# EAGLE library part TCM2-33X+ (library SamacSys_Parts)
Audio Transformers / Signal Transformers TC XFMR / SURF MT / HAT RoHS Source: Datasheet <https://www.minicircuits.com/pdfs/TCM2-33X .pdf>
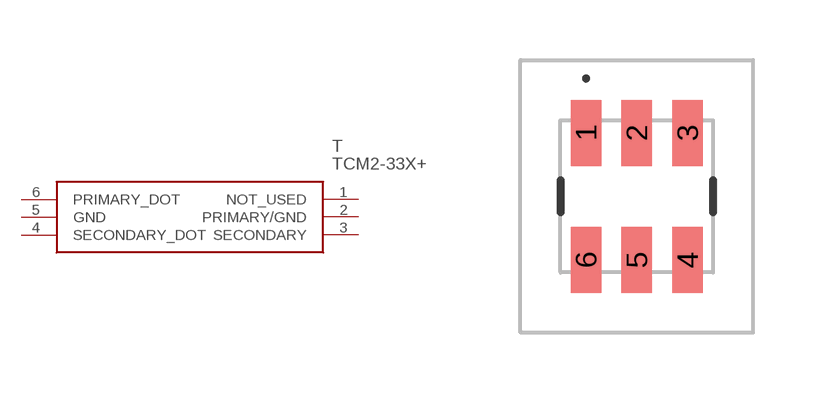
[diagram p3: symbol with the pads of TCM233X; footprint TCM233X]

Designator prefix T

## TCM2-33X+ (DESCRIPTION: Audio Transformers / Signal Transformers TC XFMR / SURF MT / HAT RoHS; HEIGHT: 4.06mm; MANUFACTURER_NAME: Mini-Circuits; MANUFACTURER_PART_NUMBER: TCM2-33X+; MOUSER_PART_NUMBER: 139-TCM2-33X; MOUSER_PRICE-STOCK: https://www.mouser.co.uk/ProductDetail/Mini-Circuits/TCM2-33X%2b?qs=xZ%2FP%252Ba9zWqaG1YGshnyhGQ%3D%3D)  [TCM233X]
1  NOT_USED
2  PRIMARY/GND
3  SECONDARY
4  SECONDARY_DOT
5  GND
6  PRIMARY_DOT

## Footprint TCM233X (pad centres in mm)
DB1627_2022
smd 0.76 x 1.65: 1 -1.27,1.59; 2 0,1.59; 3 1.27,1.59; 4 1.27,-1.59; 5 0,-1.59; 6 -1.27,-1.59